# Altium footprint library Inductor_SMD.PcbLib: 587 footprints (part 25 of 37)
Each footprint in its own frame and in the unit in brackets; x right, y up, seen from the top. Pads: shape width x height; smd on the part's side, far side on the other; paste and mask are expansions set on the pad; w line width, h text height; cw(c..) or ccw(c..) is an arc to the next point about the centre after c.
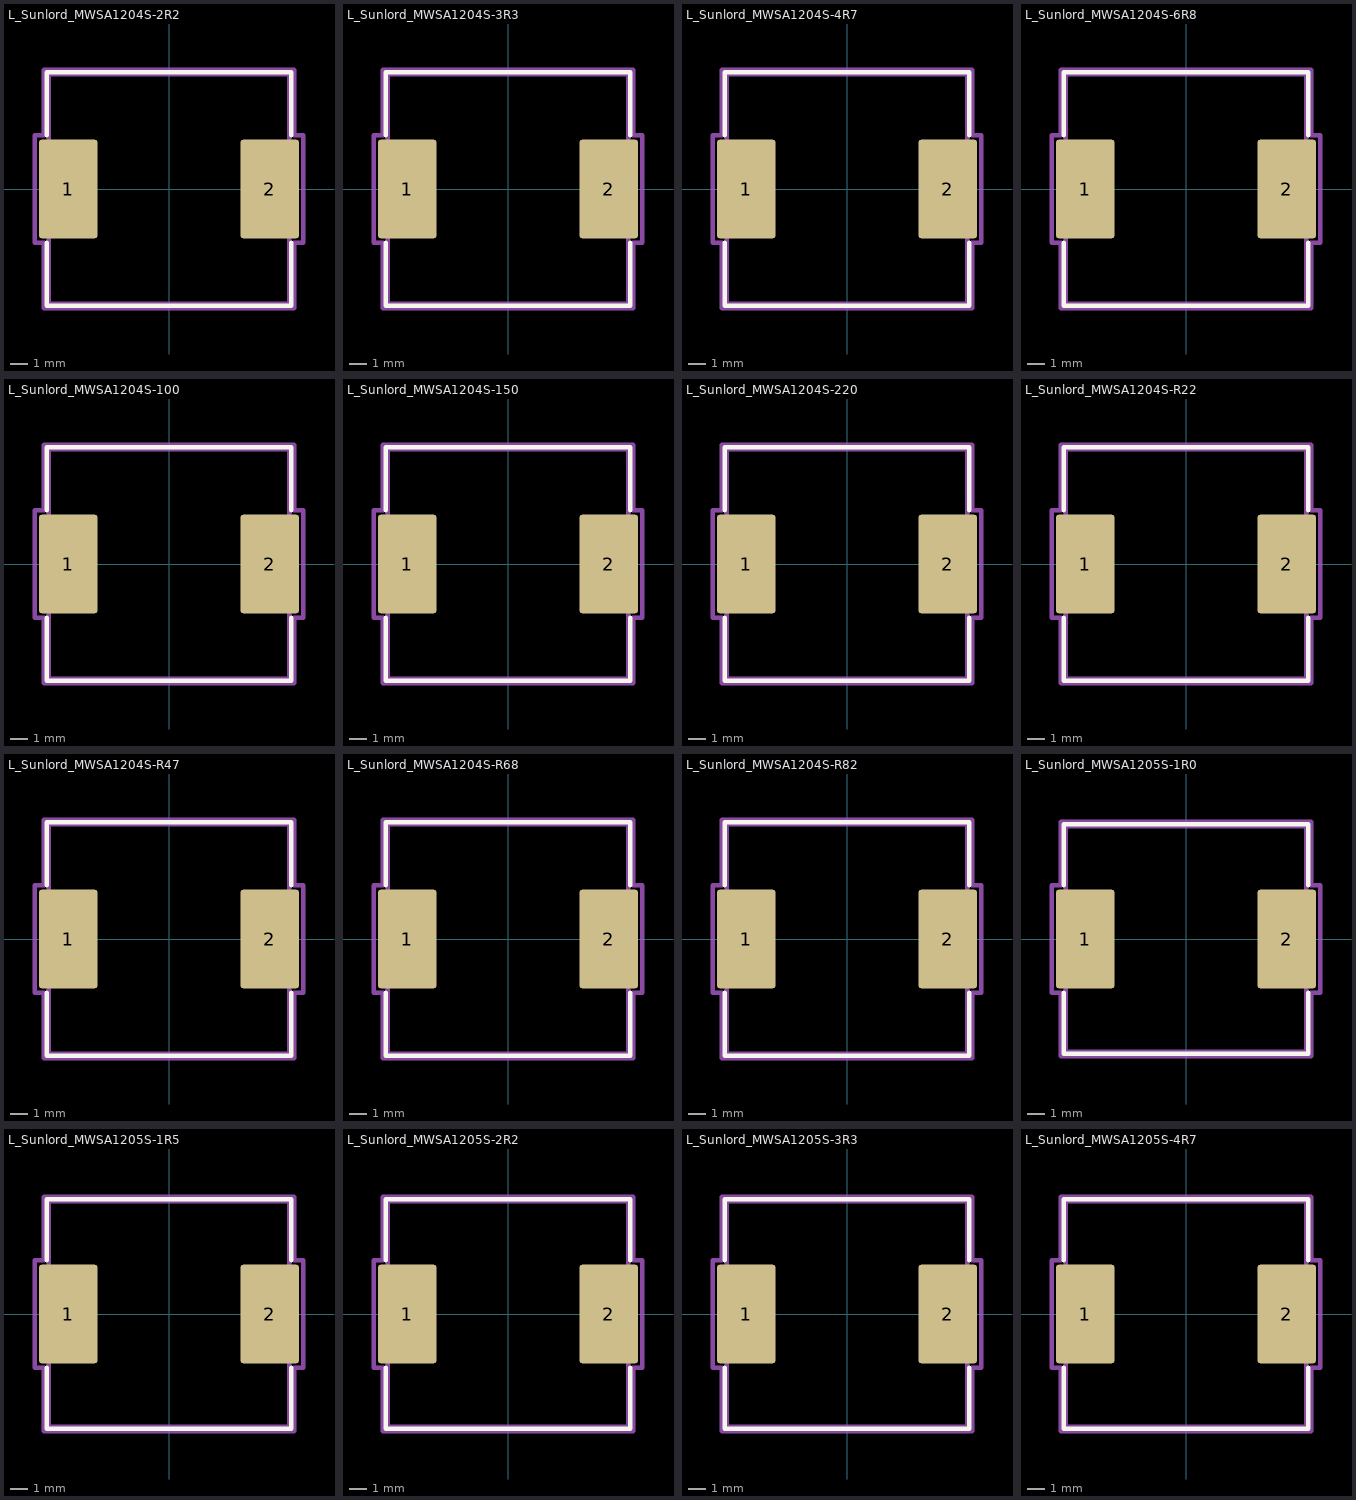
[diagram p24: the footprints below, top view; thin cyan lines are the x and y axes]

## L_Sunlord_MWSA1204S-2R2 [mm] "L_Sunlord_MWSA1204S-2R2"
pads (2):
  rrect8% 3.25x5.5 smd: 1(-5.625,0) 2(5.625,0)
F.SilkS:
  lines w0.254: -6.835,-3.01 -6.835,-6.51 6.835,-6.51 6.835,-3.01 ; -6.835,3.01 -6.835,6.51 6.835,6.51 6.835,3.01
Top Assembly:
  lines w0.254: -6.725,-6.4 6.725,-6.4 6.725,6.4 -6.725,6.4 -6.725,-6.4
  text "'.Designator'" at -4.047,-0.84 h1
Top Courtyard:
  lines w0.254: -7.5,-3 -6.98,-3 -6.98,-6.65 6.98,-6.65 6.98,-3 7.5,-3 7.5,3 6.98,3 6.98,6.65 -6.98,6.65 -6.98,3 -7.5,3 -7.5,-3
Top Designator:
  text ".Designator" at -7.618,-0.508 h1.52
3D body "L_Sunlord_MWSA1204S-2R2.step": height 4, standoff 0, extent -6.73,-6.4 6.73,6.4

## L_Sunlord_MWSA1204S-3R3 [mm] "L_Sunlord_MWSA1204S-3R3"
pads (2):
  rrect8% 3.25x5.5 smd: 1(-5.625,0) 2(5.625,0)
F.SilkS:
  lines w0.254: -6.835,-3.01 -6.835,-6.51 6.835,-6.51 6.835,-3.01 ; -6.835,3.01 -6.835,6.51 6.835,6.51 6.835,3.01
Top Assembly:
  lines w0.254: -6.725,-6.4 -6.725,6.4 6.725,6.4 6.725,-6.4 -6.725,-6.4
  text "'.Designator'" at -4.047,-0.84 h1
Top Courtyard:
  lines w0.254: -7.5,-3 -7.5,3 -6.98,3 -6.98,6.65 6.98,6.65 6.98,3 7.5,3 7.5,-3 6.98,-3 6.98,-6.65 -6.98,-6.65 -6.98,-3 -7.5,-3
Top Designator:
  text ".Designator" at -7.618,-0.508 h1.52
3D body "L_Sunlord_MWSA1204S-3R3.step": height 4, standoff 0, extent -6.73,-6.4 6.73,6.4

## L_Sunlord_MWSA1204S-4R7 [mm] "L_Sunlord_MWSA1204S-4R7"
pads (2):
  rrect8% 3.25x5.5 smd: 1(-5.625,0) 2(5.625,0)
F.SilkS:
  lines w0.254: -6.835,-3.01 -6.835,-6.51 6.835,-6.51 6.835,-3.01 ; -6.835,3.01 -6.835,6.51 6.835,6.51 6.835,3.01
Top Assembly:
  lines w0.254: -6.725,-6.4 -6.725,6.4 6.725,6.4 6.725,-6.4 -6.725,-6.4
  text "'.Designator'" at -4.047,-0.84 h1
Top Courtyard:
  lines w0.254: -7.5,-3 -7.5,3 -6.98,3 -6.98,6.65 6.98,6.65 6.98,3 7.5,3 7.5,-3 6.98,-3 6.98,-6.65 -6.98,-6.65 -6.98,-3 -7.5,-3
Top Designator:
  text ".Designator" at -7.618,-0.508 h1.52
3D body "L_Sunlord_MWSA1204S-4R7.step": height 4, standoff 0, extent -6.73,-6.4 6.73,6.4

## L_Sunlord_MWSA1204S-6R8 [mm] "L_Sunlord_MWSA1204S-6R8"
pads (2):
  rrect8% 3.25x5.5 smd: 1(-5.625,0) 2(5.625,0)
F.SilkS:
  lines w0.254: -6.835,-3.01 -6.835,-6.51 6.835,-6.51 6.835,-3.01 ; -6.835,3.01 -6.835,6.51 6.835,6.51 6.835,3.01
Top Assembly:
  lines w0.254: -6.725,-6.4 6.725,-6.4 6.725,6.4 -6.725,6.4 -6.725,-6.4
  text "'.Designator'" at -4.047,-0.84 h1
Top Courtyard:
  lines w0.254: -7.5,-3 -6.98,-3 -6.98,-6.65 6.98,-6.65 6.98,-3 7.5,-3 7.5,3 6.98,3 6.98,6.65 -6.98,6.65 -6.98,3 -7.5,3 -7.5,-3
Top Designator:
  text ".Designator" at -7.618,-0.508 h1.52
3D body "L_Sunlord_MWSA1204S-6R8.step": height 4, standoff 0, extent -6.73,-6.4 6.73,6.4

## L_Sunlord_MWSA1204S-100 [mm] "L_Sunlord_MWSA1204S-100"
pads (2):
  rrect8% 3.25x5.5 smd: 1(-5.625,0) 2(5.625,0)
F.SilkS:
  lines w0.254: -6.835,-3.01 -6.835,-6.51 6.835,-6.51 6.835,-3.01 ; -6.835,3.01 -6.835,6.51 6.835,6.51 6.835,3.01
Top Assembly:
  lines w0.254: -6.725,-6.4 6.725,-6.4 6.725,6.4 -6.725,6.4 -6.725,-6.4
  text "'.Designator'" at -4.047,-0.84 h1
Top Courtyard:
  lines w0.254: -7.5,-3 -6.98,-3 -6.98,-6.65 6.98,-6.65 6.98,-3 7.5,-3 7.5,3 6.98,3 6.98,6.65 -6.98,6.65 -6.98,3 -7.5,3 -7.5,-3
Top Designator:
  text ".Designator" at -7.618,-0.508 h1.52
3D body "L_Sunlord_MWSA1204S-100.step": height 4, standoff 0, extent -6.73,-6.4 6.73,6.4

## L_Sunlord_MWSA1204S-150 [mm] "L_Sunlord_MWSA1204S-150"
pads (2):
  rrect8% 3.25x5.5 smd: 1(-5.625,0) 2(5.625,0)
F.SilkS:
  lines w0.254: -6.835,-3.01 -6.835,-6.51 6.835,-6.51 6.835,-3.01 ; -6.835,3.01 -6.835,6.51 6.835,6.51 6.835,3.01
Top Assembly:
  lines w0.254: -6.725,-6.4 -6.725,6.4 6.725,6.4 6.725,-6.4 -6.725,-6.4
  text "'.Designator'" at -4.047,-0.84 h1
Top Courtyard:
  lines w0.254: -7.5,-3 -7.5,3 -6.98,3 -6.98,6.65 6.98,6.65 6.98,3 7.5,3 7.5,-3 6.98,-3 6.98,-6.65 -6.98,-6.65 -6.98,-3 -7.5,-3
Top Designator:
  text ".Designator" at -7.618,-0.508 h1.52
3D body "L_Sunlord_MWSA1204S-150.step": height 4, standoff 0, extent -6.73,-6.4 6.73,6.4

## L_Sunlord_MWSA1204S-220 [mm] "L_Sunlord_MWSA1204S-220"
pads (2):
  rrect8% 3.25x5.5 smd: 1(-5.625,0) 2(5.625,0)
F.SilkS:
  lines w0.254: -6.835,-3.01 -6.835,-6.51 6.835,-6.51 6.835,-3.01 ; -6.835,3.01 -6.835,6.51 6.835,6.51 6.835,3.01
Top Assembly:
  lines w0.254: -6.725,-6.4 -6.725,6.4 6.725,6.4 6.725,-6.4 -6.725,-6.4
  text "'.Designator'" at -4.047,-0.84 h1
Top Courtyard:
  lines w0.254: -7.5,-3 -7.5,3 -6.98,3 -6.98,6.65 6.98,6.65 6.98,3 7.5,3 7.5,-3 6.98,-3 6.98,-6.65 -6.98,-6.65 -6.98,-3 -7.5,-3
Top Designator:
  text ".Designator" at -7.618,-0.508 h1.52
3D body "L_Sunlord_MWSA1204S-220.step": height 4, standoff 0, extent -6.73,-6.4 6.73,6.4

## L_Sunlord_MWSA1204S-R22 [mm] "L_Sunlord_MWSA1204S-R22"
pads (2):
  rrect8% 3.25x5.5 smd: 1(-5.625,0) 2(5.625,0)
F.SilkS:
  lines w0.254: -6.835,-3.01 -6.835,-6.51 6.835,-6.51 6.835,-3.01 ; -6.835,3.01 -6.835,6.51 6.835,6.51 6.835,3.01
Top Assembly:
  lines w0.254: -6.725,-6.4 -6.725,6.4 6.725,6.4 6.725,-6.4 -6.725,-6.4
  text "'.Designator'" at -4.047,-0.84 h1
Top Courtyard:
  lines w0.254: -7.5,-3 -7.5,3 -6.98,3 -6.98,6.65 6.98,6.65 6.98,3 7.5,3 7.5,-3 6.98,-3 6.98,-6.65 -6.98,-6.65 -6.98,-3 -7.5,-3
Top Designator:
  text ".Designator" at -7.618,-0.508 h1.52
3D body "L_Sunlord_MWSA1204S-R22.step": height 4, standoff 0, extent -6.73,-6.4 6.73,6.4

## L_Sunlord_MWSA1204S-R47 [mm] "L_Sunlord_MWSA1204S-R47"
pads (2):
  rrect8% 3.25x5.5 smd: 1(-5.625,0) 2(5.625,0)
F.SilkS:
  lines w0.254: -6.835,-3.01 -6.835,-6.51 6.835,-6.51 6.835,-3.01 ; -6.835,3.01 -6.835,6.51 6.835,6.51 6.835,3.01
Top Assembly:
  lines w0.254: -6.725,-6.4 -6.725,6.4 6.725,6.4 6.725,-6.4 -6.725,-6.4
  text "'.Designator'" at -4.047,-0.84 h1
Top Courtyard:
  lines w0.254: -7.5,-3 -7.5,3 -6.98,3 -6.98,6.65 6.98,6.65 6.98,3 7.5,3 7.5,-3 6.98,-3 6.98,-6.65 -6.98,-6.65 -6.98,-3 -7.5,-3
Top Designator:
  text ".Designator" at -7.618,-0.508 h1.52
3D body "L_Sunlord_MWSA1204S-R47.step": height 4, standoff 0, extent -6.73,-6.4 6.73,6.4

## L_Sunlord_MWSA1204S-R68 [mm] "L_Sunlord_MWSA1204S-R68"
pads (2):
  rrect8% 3.25x5.5 smd: 1(-5.625,0) 2(5.625,0)
F.SilkS:
  lines w0.254: -6.835,-3.01 -6.835,-6.51 6.835,-6.51 6.835,-3.01 ; -6.835,3.01 -6.835,6.51 6.835,6.51 6.835,3.01
Top Assembly:
  lines w0.254: -6.725,-6.4 -6.725,6.4 6.725,6.4 6.725,-6.4 -6.725,-6.4
  text "'.Designator'" at -4.047,-0.84 h1
Top Courtyard:
  lines w0.254: -7.5,-3 -7.5,3 -6.98,3 -6.98,6.65 6.98,6.65 6.98,3 7.5,3 7.5,-3 6.98,-3 6.98,-6.65 -6.98,-6.65 -6.98,-3 -7.5,-3
Top Designator:
  text ".Designator" at -7.618,-0.508 h1.52
3D body "L_Sunlord_MWSA1204S-R68.step": height 4, standoff 0, extent -6.73,-6.4 6.73,6.4

## L_Sunlord_MWSA1204S-R82 [mm] "L_Sunlord_MWSA1204S-R82"
pads (2):
  rrect8% 3.25x5.5 smd: 1(-5.625,0) 2(5.625,0)
F.SilkS:
  lines w0.254: -6.835,-3.01 -6.835,-6.51 6.835,-6.51 6.835,-3.01 ; -6.835,3.01 -6.835,6.51 6.835,6.51 6.835,3.01
Top Assembly:
  lines w0.254: -6.725,-6.4 6.725,-6.4 6.725,6.4 -6.725,6.4 -6.725,-6.4
  text "'.Designator'" at -4.047,-0.84 h1
Top Courtyard:
  lines w0.254: -7.5,-3 -6.98,-3 -6.98,-6.65 6.98,-6.65 6.98,-3 7.5,-3 7.5,3 6.98,3 6.98,6.65 -6.98,6.65 -6.98,3 -7.5,3 -7.5,-3
Top Designator:
  text ".Designator" at -7.618,-0.508 h1.52
3D body "L_Sunlord_MWSA1204S-R82.step": height 4, standoff 0, extent -6.73,-6.4 6.73,6.4

## L_Sunlord_MWSA1205S-1R0 [mm] "L_Sunlord_MWSA1205S-1R0"
pads (2):
  rrect8% 3.25x5.5 smd: 1(-5.625,0) 2(5.625,0)
F.SilkS:
  lines w0.254: -6.835,-3.01 -6.835,-6.41 6.835,-6.41 6.835,-3.01 ; -6.835,3.01 -6.835,6.41 6.835,6.41 6.835,3.01
Top Assembly:
  lines w0.254: -6.725,-6.3 6.725,-6.3 6.725,6.3 -6.725,6.3 -6.725,-6.3
  text "'.Designator'" at -4.047,-0.84 h1
Top Courtyard:
  lines w0.254: -7.5,-3 -6.98,-3 -6.98,-6.55 6.98,-6.55 6.98,-3 7.5,-3 7.5,3 6.98,3 6.98,6.55 -6.98,6.55 -6.98,3 -7.5,3 -7.5,-3
Top Designator:
  text ".Designator" at -7.618,-0.508 h1.52
3D body "L_Sunlord_MWSA1205S-1R0.step": height 4.8, standoff 0, extent -6.73,-6.3 6.73,6.3

## L_Sunlord_MWSA1205S-1R5 [mm] "L_Sunlord_MWSA1205S-1R5"
pads (2):
  rrect8% 3.25x5.5 smd: 1(-5.625,0) 2(5.625,0)
F.SilkS:
  lines w0.254: -6.835,-3.01 -6.835,-6.41 6.835,-6.41 6.835,-3.01 ; -6.835,3.01 -6.835,6.41 6.835,6.41 6.835,3.01
Top Assembly:
  lines w0.254: -6.725,-6.3 -6.725,6.3 6.725,6.3 6.725,-6.3 -6.725,-6.3
  text "'.Designator'" at -4.047,-0.84 h1
Top Courtyard:
  lines w0.254: -7.5,-3 -7.5,3 -6.98,3 -6.98,6.55 6.98,6.55 6.98,3 7.5,3 7.5,-3 6.98,-3 6.98,-6.55 -6.98,-6.55 -6.98,-3 -7.5,-3
Top Designator:
  text ".Designator" at -7.618,-0.508 h1.52
3D body "L_Sunlord_MWSA1205S-1R5.step": height 4.8, standoff 0, extent -6.73,-6.3 6.73,6.3

## L_Sunlord_MWSA1205S-2R2 [mm] "L_Sunlord_MWSA1205S-2R2"
pads (2):
  rrect8% 3.25x5.5 smd: 1(-5.625,0) 2(5.625,0)
F.SilkS:
  lines w0.254: -6.835,-3.01 -6.835,-6.41 6.835,-6.41 6.835,-3.01 ; -6.835,3.01 -6.835,6.41 6.835,6.41 6.835,3.01
Top Assembly:
  lines w0.254: -6.725,-6.3 -6.725,6.3 6.725,6.3 6.725,-6.3 -6.725,-6.3
  text "'.Designator'" at -4.047,-0.84 h1
Top Courtyard:
  lines w0.254: -7.5,-3 -7.5,3 -6.98,3 -6.98,6.55 6.98,6.55 6.98,3 7.5,3 7.5,-3 6.98,-3 6.98,-6.55 -6.98,-6.55 -6.98,-3 -7.5,-3
Top Designator:
  text ".Designator" at -7.618,-0.508 h1.52
3D body "L_Sunlord_MWSA1205S-2R2.step": height 4.8, standoff 0, extent -6.73,-6.3 6.73,6.3

## L_Sunlord_MWSA1205S-3R3 [mm] "L_Sunlord_MWSA1205S-3R3"
pads (2):
  rrect8% 3.25x5.5 smd: 1(-5.625,0) 2(5.625,0)
F.SilkS:
  lines w0.254: -6.835,-3.01 -6.835,-6.41 6.835,-6.41 6.835,-3.01 ; -6.835,3.01 -6.835,6.41 6.835,6.41 6.835,3.01
Top Assembly:
  lines w0.254: -6.725,-6.3 -6.725,6.3 6.725,6.3 6.725,-6.3 -6.725,-6.3
  text "'.Designator'" at -4.047,-0.84 h1
Top Courtyard:
  lines w0.254: -7.5,-3 -7.5,3 -6.98,3 -6.98,6.55 6.98,6.55 6.98,3 7.5,3 7.5,-3 6.98,-3 6.98,-6.55 -6.98,-6.55 -6.98,-3 -7.5,-3
Top Designator:
  text ".Designator" at -7.618,-0.508 h1.52
3D body "L_Sunlord_MWSA1205S-3R3.step": height 4.8, standoff 0, extent -6.73,-6.3 6.73,6.3

## L_Sunlord_MWSA1205S-4R7 [mm] "L_Sunlord_MWSA1205S-4R7"
pads (2):
  rrect8% 3.25x5.5 smd: 1(-5.625,0) 2(5.625,0)
F.SilkS:
  lines w0.254: -6.835,-3.01 -6.835,-6.41 6.835,-6.41 6.835,-3.01 ; -6.835,3.01 -6.835,6.41 6.835,6.41 6.835,3.01
Top Assembly:
  lines w0.254: -6.725,-6.3 6.725,-6.3 6.725,6.3 -6.725,6.3 -6.725,-6.3
  text "'.Designator'" at -4.047,-0.84 h1
Top Courtyard:
  lines w0.254: -7.5,-3 -6.98,-3 -6.98,-6.55 6.98,-6.55 6.98,-3 7.5,-3 7.5,3 6.98,3 6.98,6.55 -6.98,6.55 -6.98,3 -7.5,3 -7.5,-3
Top Designator:
  text ".Designator" at -7.618,-0.508 h1.52
3D body "L_Sunlord_MWSA1205S-4R7.step": height 4.8, standoff 0, extent -6.73,-6.3 6.73,6.3